# Altium schematic symbol library SCH - MCU - RENESAS - RENESAS R7FS1JA7XXXXXXNF 40QFN.SchLib: 1 symbol
Pins are listed as number, name and electrical type; pins without a type are passive.

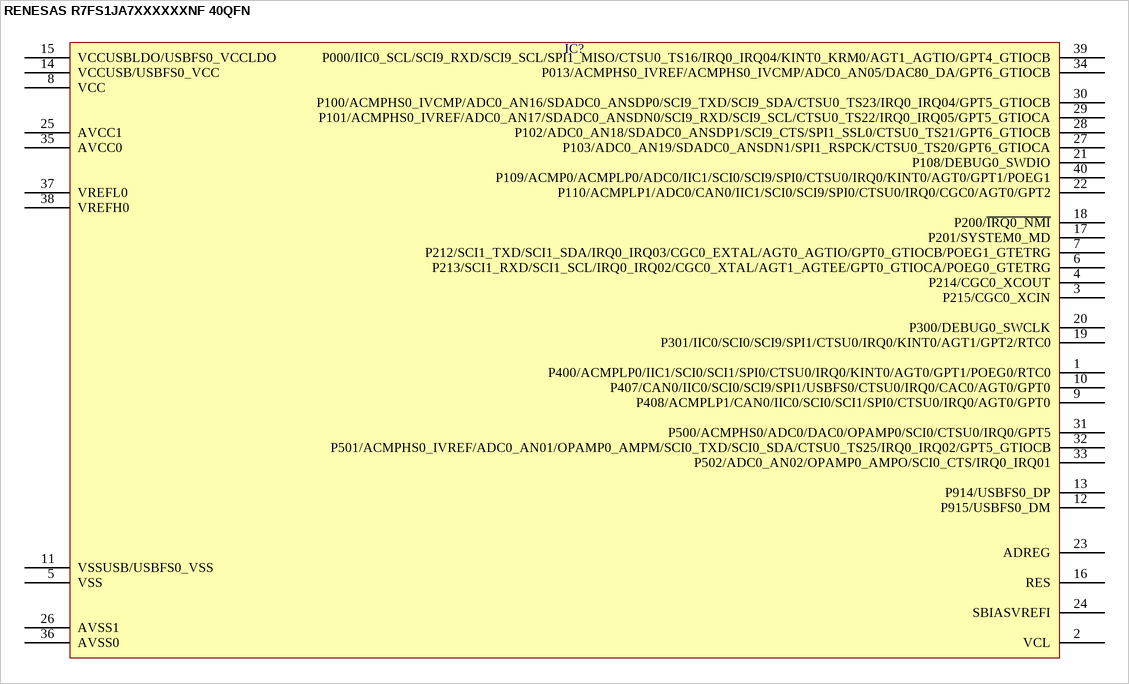
[diagram p0: symbol RENESAS R7FS1JA7XXXXXXNF 40QFN]

## RENESAS R7FS1JA7XXXXXXNF 40QFN
designator IC?  (value not drawn)
pins: 1 P400/ACMPLP0/IIC1/SCI0/SCI1/SPI0/CTSU0/IRQ0/KINT0/AGT0/GPT1/POEG0/RTC0, 2 VCL, 3 P215/CGC0_XCIN, 4 P214/CGC0_XCOUT, 5 VSS, 6 P213/SCI1_RXD/SCI1_SCL/IRQ0_IRQ02/CGC0_XTAL/AGT1_AGTEE/GPT0_GTIOCA/POEG0_GTETRG, 7 P212/SCI1_TXD/SCI1_SDA/IRQ0_IRQ03/CGC0_EXTAL/AGT0_AGTIO/GPT0_GTIOCB/POEG1_GTETRG, 8 VCC, 9 P408/ACMPLP1/CAN0/IIC0/SCI0/SCI1/SPI0/CTSU0/IRQ0/AGT0/GPT0, 10 P407/CAN0/IIC0/SCI0/SCI9/SPI1/USBFS0/CTSU0/IRQ0/CAC0/AGT0/GPT0, 11 VSSUSB/USBFS0_VSS, 12 P915/USBFS0_DM, 13 P914/USBFS0_DP, 14 VCCUSB/USBFS0_VCC, 15 VCCUSBLDO/USBFS0_VCCLDO, 16 RES, 17 P201/SYSTEM0_MD, 18 P200/~{IRQ0_NMI}, 19 P301/IIC0/SCI0/SCI9/SPI1/CTSU0/IRQ0/KINT0/AGT1/GPT2/RTC0, 20 P300/DEBUG0_SWCLK, 21 P108/DEBUG0_SWDIO, 22 P110/ACMPLP1/ADC0/CAN0/IIC1/SCI0/SCI9/SPI0/CTSU0/IRQ0/CGC0/AGT0/GPT2, 23 ADREG, 24 SBIASVREFI, 25 AVCC1, 26 AVSS1, 27 P103/ADC0_AN19/SDADC0_ANSDN1/SPI1_RSPCK/CTSU0_TS20/GPT6_GTIOCA, 28 P102/ADC0_AN18/SDADC0_ANSDP1/SCI9_CTS/SPI1_SSL0/CTSU0_TS21/GPT6_GTIOCB, 29 P101/ACMPHS0_IVREF/ADC0_AN17/SDADC0_ANSDN0/SCI9_RXD/SCI9_SCL/CTSU0_TS22/IRQ0_IRQ05/GPT5_GTIOCA, 30 P100/ACMPHS0_IVCMP/ADC0_AN16/SDADC0_ANSDP0/SCI9_TXD/SCI9_SDA/CTSU0_TS23/IRQ0_IRQ04/GPT5_GTIOCB, 31 P500/ACMPHS0/ADC0/DAC0/OPAMP0/SCI0/CTSU0/IRQ0/GPT5, 32 P501/ACMPHS0_IVREF/ADC0_AN01/OPAMP0_AMPM/SCI0_TXD/SCI0_SDA/CTSU0_TS25/IRQ0_IRQ02/GPT5_GTIOCB, 33 P502/ADC0_AN02/OPAMP0_AMPO/SCI0_CTS/IRQ0_IRQ01, 34 P013/ACMPHS0_IVREF/ACMPHS0_IVCMP/ADC0_AN05/DAC80_DA/GPT6_GTIOCB, 35 AVCC0, 36 AVSS0, 37 VREFL0, 38 VREFH0, 39 P000/IIC0_SCL/SCI9_RXD/SCI9_SCL/SPI1_MISO/CTSU0_TS16/IRQ0_IRQ04/KINT0_KRM0/AGT1_AGTIO/GPT4_GTIOCB, 40 P109/ACMP0/ACMPLP0/ADC0/IIC1/SCI0/SCI9/SPI0/CTSU0/IRQ0/KINT0/AGT0/GPT1/POEG1